# Altium schematic symbol library ADPL16000AATA+T.SchLib: 1 symbol
Pins are listed as number, name and electrical type; pins without a type are passive.

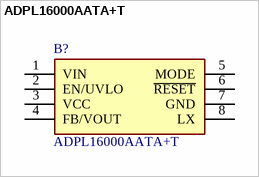
[diagram p0: symbol ADPL16000AATA+T]

## ADPL16000AATA+T
designator B?
60V, 400mA, Ultra-Small, Hi gh-Efficiency, Synchronous Step-Down DC-DC Converters; Manufacturer_Name: Analog Devices; Geometry.Height: 0.8mm; Manufacturer_Part_Number: ADPL16000AATA+T; Mouser Part Number: 700-ADPL16000AATA+T; Mouser Price/Stock: https://www.mouser.co.uk/ProductDetail/Analog-Devices-Maxim-Integrated/ADPL16000AATA%2bT?qs=wT7LY0lnAe0OnT0M8eXHew%3D%3D; Arrow Part Number: *; Arrow Price/Stock: *; Datasheet Link: https://www.analog.com/media/en/technical-documentation/data-sheets/adpl16000.pdf
footprint ADPL16000AATAT
pins: 1 VIN, 2 EN/UVLO, 3 VCC, 4 FB/VOUT, 5 MODE, 6 ~{RESET}, 7 GND, 8 LX